# EAGLE library part ADL5303 (library lib_stankus)
ADL5303
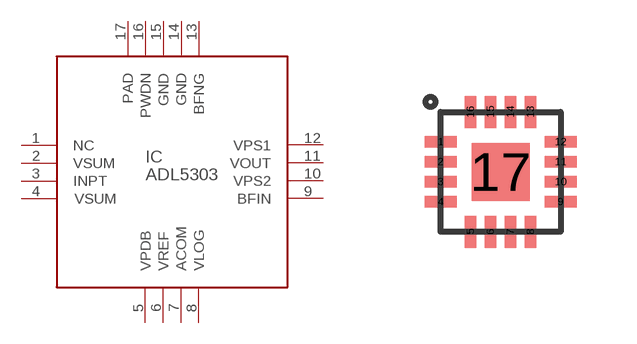
[diagram p120: symbol with the pads of QFN16_3_05; footprint QFN16_3_05]

Designator prefix IC

## ADL5303-QFN16  [QFN16_3_05]
1  NC  pas
2  VSUM  pas
3  INPT  pas
4  VSUM  pas
5  VPDB  pas
6  VREF  pas
7  ACOM  pas
8  VLOG  pas
9  BFIN  pas
10  VPS2  pas
11  VOUT  pas
12  VPS1  pas
13  BFNG  pas
14  GND  pas
15  GND  pas
16  PWDN  pas
17  PAD  pas

## Footprint QFN16_3_05 (pad centres in mm)
QFN16, 3x3 MM, 0.5 MM
smd 0.8 x 0.28: 1 -1.5,0.75; 2 -1.5,0.25; 3 -1.5,-0.25; 4 -1.5,-0.75; 9 1.5,-0.75; 10 1.5,-0.25; 11 1.5,0.25; 12 1.5,0.75
smd 0.28 x 0.8: 5 -0.75,-1.5; 6 -0.25,-1.5; 7 0.25,-1.5; 8 0.75,-1.5; 13 0.75,1.5; 14 0.25,1.5; 15 -0.25,1.5; 16 -0.75,1.5
smd 1.45 x 1.45: 17 0,0